# EAGLE library part XTR115U (library burr-brown)
4-20mA CURRENT LOOP TRANSMITTERS
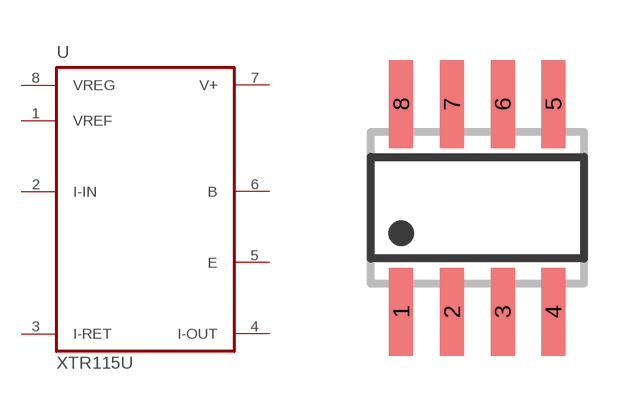
[diagram p180: symbol with the pads of SO08; footprint SO08]

Designator prefix U

## XTR115UD  [SO08]
1  VREF  pas
2  I-IN  pas
3  I-RET  pas
4  I-OUT  pas
5  E  pas
6  B  pas
7  V+  pas
8  VREG  pas

## Footprint SO08 (pad centres in mm)
SMALL OUTLINE INTEGRATED CIRCUIT body 3.9 mm/JEDEC MS-012AA
smd 0.6 x 2.2: 1 -1.905,-2.6; 2 -0.635,-2.6; 3 0.635,-2.6; 4 1.905,-2.6; 5 1.905,2.6; 6 0.635,2.6; 7 -0.635,2.6; 8 -1.905,2.6